# Altium footprint library BMP180.PcbLib: 1 footprints
Each footprint in its own frame and in the unit in brackets; x right, y up, seen from the top. Pads: shape width x height; smd on the part's side, far side on the other; paste and mask are expansions set on the pad; w line width, h text height; cw(c..) or ccw(c..) is an arc to the next point about the centre after c.
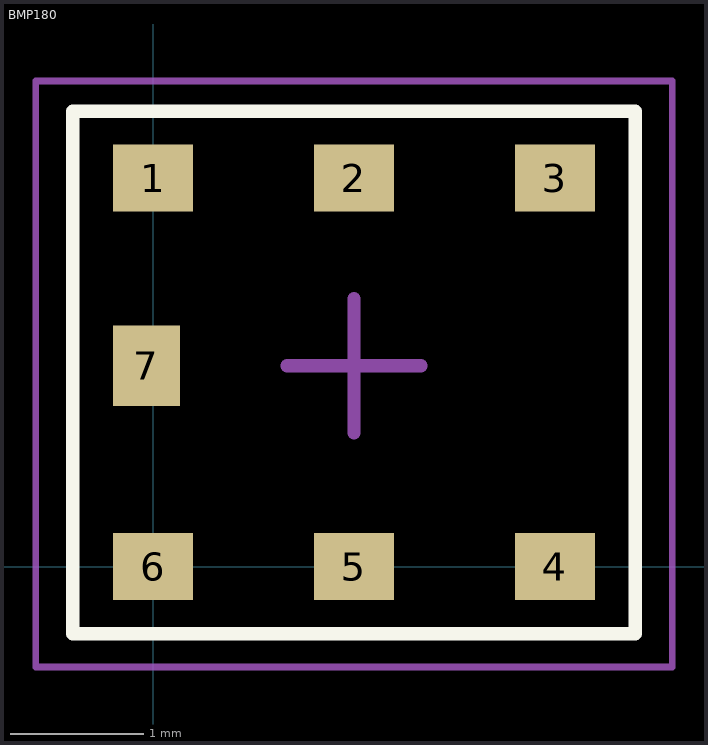
[diagram p0: the footprint, top view; thin cyan lines are the x and y axes]

## BMP180 [mm]
height 0.2
pads (7):
  rect 0.6x0.5 smd: 1(0,2.9) 2(1.5,2.9) 3(3,2.9) 4(3,0) 5(1.5,0) 6(0,0)
  rect 0.5x0.6 smd: 7(-0.05,1.5)
Top Overlay:
  lines w0.1: -0.6,-0.5 -0.6,3.4 3.6,3.4 3.6,-0.5 -0.6,-0.5
Top Courtyard:
  lines w0.05: -0.875,-0.75 3.875,-0.75 3.875,3.625 -0.875,3.625 -0.875,-0.75
  lines w0.1: 1,1.5 2,1.5 ; 1.5,1 1.5,2